# EAGLE library part PTN78020WAZ (library PTN78020WAZ)
PTN78020WAZ Texas Instruments, PTN78020WAZ Step-Down Switching Regulator, 7-Pin DIP Module Source: Datasheet
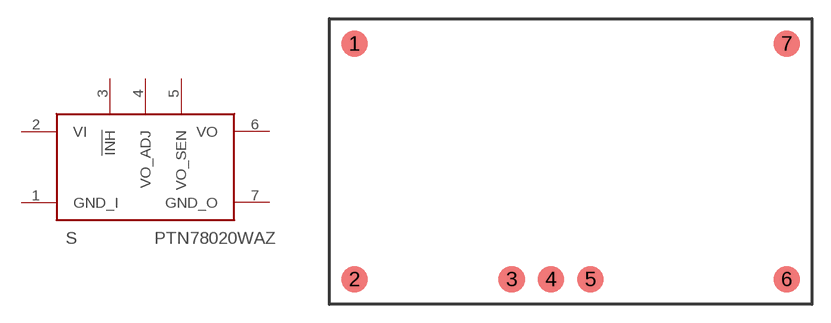
[diagram p0: symbol with the pads of PTN78020WAZ; footprint PTN78020WAZ]

Designator prefix S

## PTN78020WAZ (DESCRIPTION: PTN78020WAZ Texas Instruments, PTN78020WAZ Step-Down Switching Regulator, 7-Pin DIP Module; HEIGHT: mm; MANUFACTURER_NAME: Texas Instruments; MANUFACTURER_PART_NUMBER: PTN78020WAZ; MOUSER_PART_NUMBER: 595-PTN78020WAZ; MOUSER_PRICE-STOCK: https://www.mouser.com/Search/Refine.aspx?Keyword=595-PTN78020WAZ)  [PTN78020WAZ]
1  GND_I
2  VI
3  !INH
4  VO_ADJ
5  VO_SEN
6  VO
7  GND_O

## Footprint PTN78020WAZ (pad centres in mm)
PTN78020WAZ
smd 2.16 x 2.16: 1 -34.93,0; 2 -34.93,-19.05; 3 -22.23,-19.05; 4 -19.05,-19.05; 5 -15.87,-19.05; 6 0,-19.05; 7 0,0